# Altium schematic symbol library FT232R.SchLib: 1 symbol
Pins are listed as number, name and electrical type; pins without a type are passive.

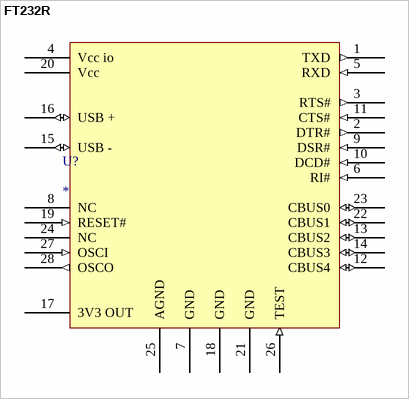
[diagram p0: symbol FT232R]

## FT232R
designator U?
footprint SOP65P780-28BL (SOP, 28-Leads, Body 10.2x5.3mm, Pitch 0.65mm, IPC High Density)
pins: 1 TXD (out), 2 DTR# (out), 3 RTS# (out), 4 Vcc io (power), 5 RXD (in), 6 RI# (in), 7 GND (power), 8 NC, 9 DSR# (in), 10 DCD# (in), 11 CTS# (in), 12 CBUS4 (io), 13 CBUS2 (io), 14 CBUS3 (io), 15 USB - (io), 16 USB + (io), 17 3V3 OUT (power), 18 GND (power), 19 RESET# (in), 20 Vcc (power), 21 GND (power), 22 CBUS1 (io), 23 CBUS0 (io), 24 NC, 25 AGND, 26 TEST (in), 27 OSCI (in), 28 OSCO (out)